# EAGLE library part MCP4013 (library nonolith)
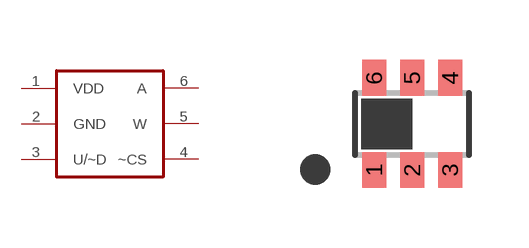
[diagram p37: symbol with the pads of SOT23-6; footprint SOT23-6]

Designator prefix -

## MCP4013  [SOT23-6]
1  VDD
2  GND
3  U/~D
4  ~CS
5  W
6  A

## Footprint SOT23-6 (pad centres in mm)
Small Outline Transistor 6 lead
smd 0.6 x 0.9: 1 -0.95,-1.15; 2 0,-1.15; 3 0.95,-1.15; 4 0.95,1.15; 5 0,1.15; 6 -0.95,1.15